# Altium schematic symbol library Cymometer.SchLib: 31 symbols
Pins are listed as number, name and electrical type; pins without a type are passive.

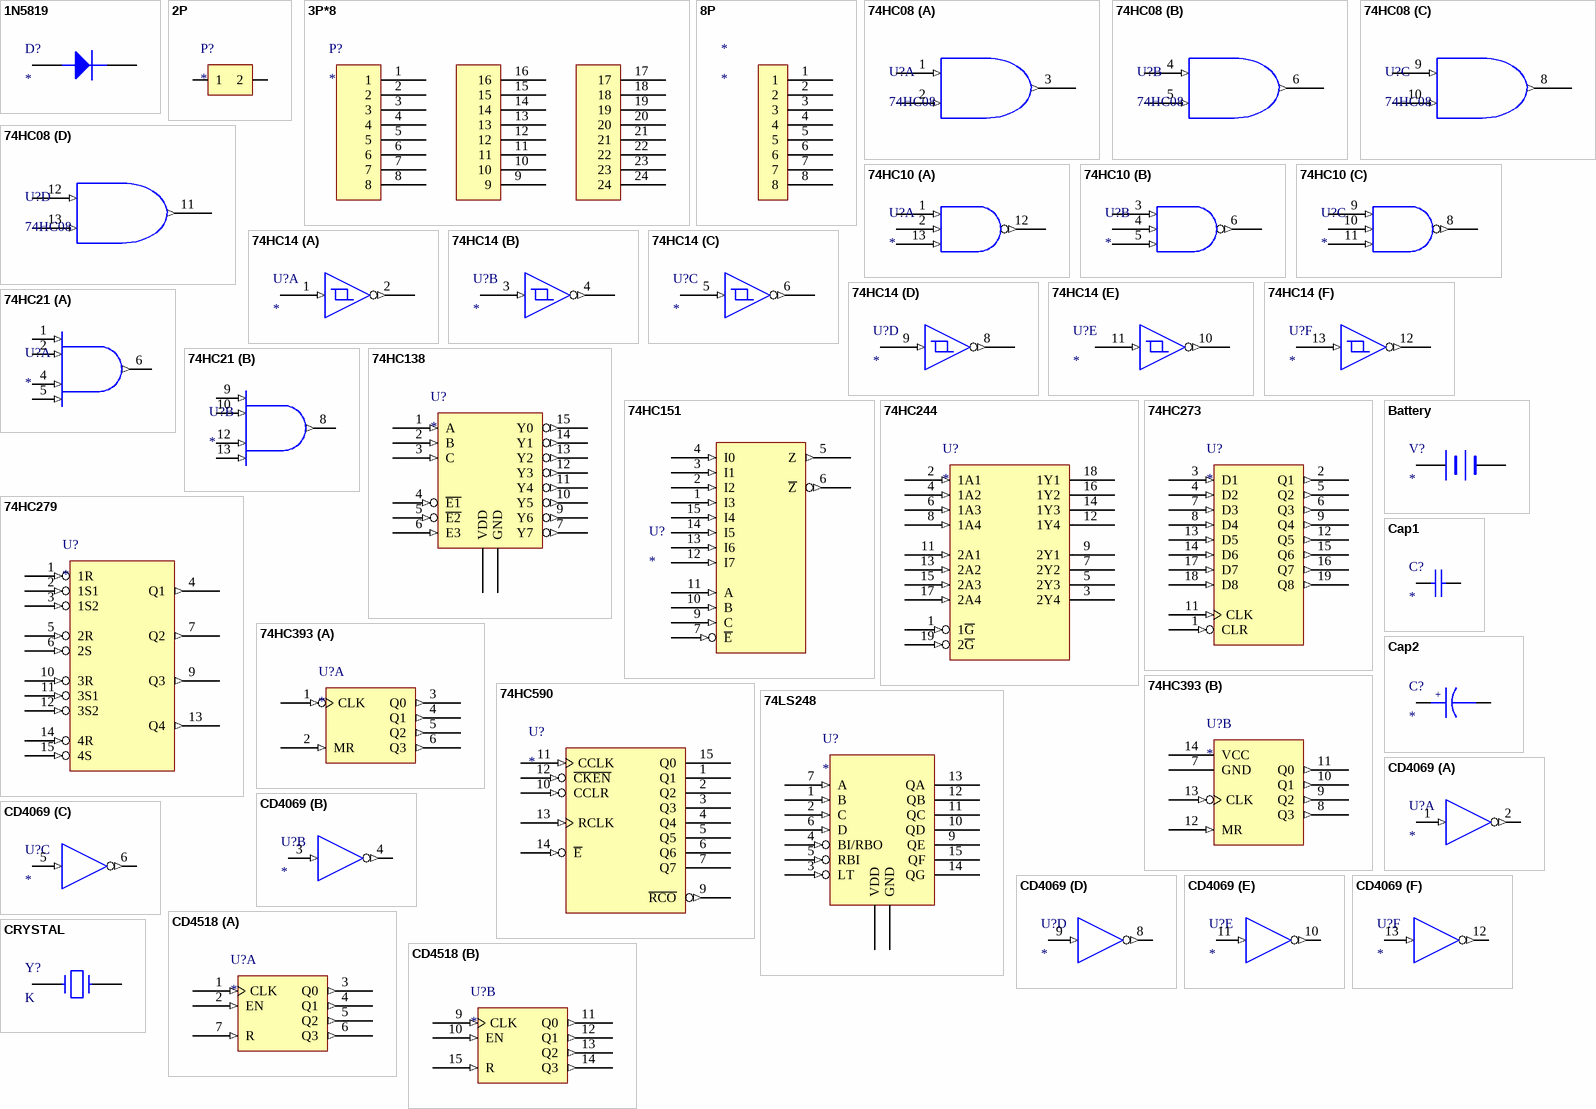
[diagram p0: symbols 1N5819 to CRYSTAL]

## 1N5819
designator D?
footprint 1N5819(SMA)
pins: A, K

## 2P
designator P?
footprint 2P
pins: 1, 2

## 3P*8
designator P?
footprint 3P*8
pins: 1, 2, 3, 4, 5, 6, 7, 8, 9, 10, 11, 12, 13, 14, 15, 16, 17, 18, 19, 20, 21, 22, 23, 24

## 8P
designator *
pins: 1, 2, 3, 4, 5, 6, 7, 8

## 74HC08
designator U?
二输入与门
footprint SOP14
part A pins: 1 (in), 2 (in), 3 (out)
part B pins: 4 (in), 5 (in), 6 (out)
part C pins: 8 (out), 9 (in), 10 (in)
part D pins: 11 (out), 12 (in), 13 (in)

## 74HC10
designator U?
footprint SOP14
part A pins: 1 (in), 2 (in), 12 (out), 13 (in)
part B pins: 3 (in), 4 (in), 5 (in), 6 (out)
part C pins: 8 (out), 9 (in), 10 (in), 11 (in)

## 74HC14
designator U?
footprint SOP14
part A pins: 1 (in), 2 (out)
part B pins: 3 (in), 4 (out)
part C pins: 5 (in), 6 (out)
part D pins: 8 (out), 9 (in)
part E pins: 10 (out), 11 (in)
part F pins: 12 (out), 13 (in)

## 74HC21
designator U?
4输入与门
footprint SOP14
part A pins: 1 A (in), 2 B (in), 4 C (in), 5 D (in), 6 Y (out)
part B pins: 8 Y (out), 9 A (in), 10 B (in), 12 C (in), 13 D (in)

## 74HC138
designator U?
38译码器
footprint SOP16
pins: 1 A (in), 2 B (in), 3 C (in), 4 ~{E1} (in), 5 ~{E2} (in), 6 E3 (in), 7 Y7 (out), 8 GND (power), 9 Y6 (out), 10 Y5 (out), 11 Y4 (out), 12 Y3 (out), 13 Y2 (out), 14 Y1 (out), 15 Y0 (out), 16 VDD (power)

## 74HC151
designator U?
footprint DIP16
pins: 1 I3 (in), 2 I2 (in), 3 I1 (in), 4 I0 (in), 5 Z (out), 6 ~{Z} (out), 7 ~{E} (in), 9 C (in), 10 B (in), 11 A (in), 12 I7 (in), 13 I6 (in), 14 I5 (in), 15 I4 (in)

## 74HC244
designator U?
三态缓冲器
footprint SOP20
pins: 1 1~{G} (in), 2 1A1 (in), 3 2Y4 (hiz), 4 1A2 (in), 5 2Y3 (hiz), 6 1A3 (in), 7 2Y2 (hiz), 8 1A4 (in), 9 2Y1 (hiz), 11 2A1 (in), 12 1Y4 (hiz), 13 2A2 (in), 14 1Y3 (hiz), 15 2A3 (in), 16 1Y2 (hiz), 17 2A4 (in), 18 1Y1 (hiz), 19 2~{G} (in)

## 74HC273
designator U?
D触发器
footprint SOP20
pins: 1 CLR (in), 2 Q1 (out), 3 D1 (in), 4 D2 (in), 5 Q2 (out), 6 Q3 (out), 7 D3 (in), 8 D4 (in), 9 Q4 (out), 11 CLK (in), 12 Q5 (out), 13 D5 (in), 14 D6 (in), 15 Q6 (out), 16 Q7 (out), 17 D7 (in), 18 D8 (in), 19 Q8 (out)

## 74HC279
designator U?
footprint DIP16
pins: 1 1R (in), 2 1S1 (in), 3 1S2 (in), 4 Q1 (out), 5 2R (in), 6 2S (in), 7 Q2 (out), 9 Q3 (out), 10 3R (in), 11 3S1 (in), 12 3S2 (in), 13 Q4 (out), 14 4R (in), 15 4S (in)

## 74HC393
designator U?
footprint SOP14
part A pins: 1 CLK (in), 2 MR (in), 3 Q0 (out), 4 Q1 (out), 5 Q2 (out), 6 Q3 (out)
part B pins: 7 GND (power), 8 Q3 (out), 9 Q2 (out), 10 Q1 (out), 11 Q0 (out), 12 MR (in), 13 CLK (in), 14 VCC (power)

## 74HC590
designator U?
footprint SOP16
pins: 1 Q1 (hiz), 2 Q2 (hiz), 3 Q3 (hiz), 4 Q4 (hiz), 5 Q5 (hiz), 6 Q6 (hiz), 7 Q7 (hiz), 9 ~{RCO} (out), 10 CCLR (in), 11 CCLK (in), 12 ~{CKEN} (in), 13 RCLK (in), 14 ~{E} (in), 15 Q0 (hiz)

## 74LS248
designator U?
数码管译码器
footprint DIP16
pins: 1 B (in), 2 C (in), 3 LT (in), 4 BI/RBO (in), 5 RBI (in), 6 D (in), 7 A (in), 8 GND (power), 9 QE, 10 QD, 11 QC, 12 QB, 13 QA, 14 QG, 15 QF, 16 VDD (power)

## Battery
designator V?
footprint Battry
pins: 1 +, 2 -

## Cap1
designator C?
footprint Cap1
pins: 1, 2

## Cap2
designator C?
footprint Cap2
pins: A 1, K 2
text: +

## CD4069
designator U?
CMOS非门
footprint DIP14
part A pins: 1 A (in), 2 Y (out)
part B pins: 3 A (in), 4 Y (out)
part C pins: 5 A (in), 6 Y (out)
part D pins: 8 Y (out), 9 A (in)
part E pins: 10 Y (out), 11 A (in)
part F pins: 12 Y (out), 13 A (in)

## CD4518
designator U?
BCD计数器
footprint DIP16
part A pins: 1 CLK (in), 2 EN (in), 3 Q0 (out), 4 Q1 (out), 5 Q2 (out), 6 Q3 (out), 7 R (in)
part B pins: 9 CLK (in), 10 EN (in), 11 Q0 (out), 12 Q1 (out), 13 Q2 (out), 14 Q3 (out), 15 R (in)

## CRYSTAL
designator Y?, comment K
晶振
footprint CRYSTAL
pins: 1, 2

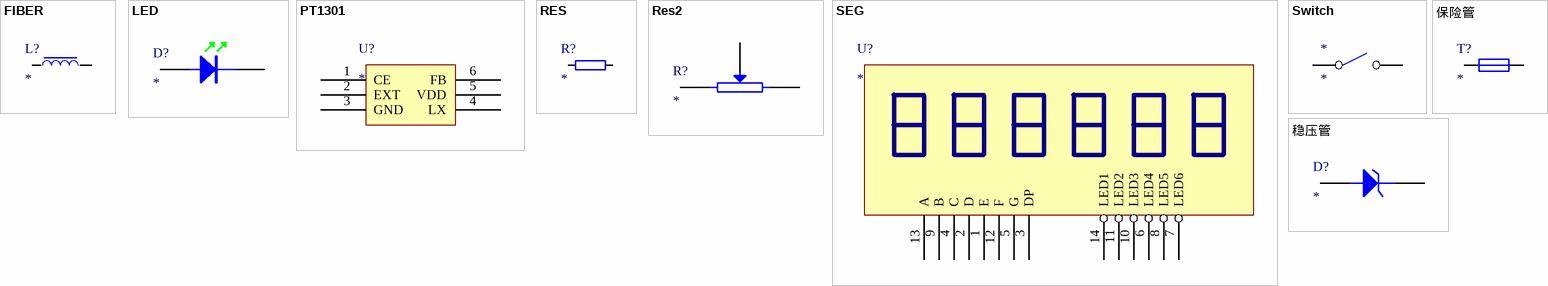
[diagram p1: symbols FIBER to 稳压管]

## FIBER
designator L?
footprint FIBER
pins: 1, 2

## LED
designator D?
footprint 0805LED
pins: A 1, K 2

## PT1301
designator U?
footprint Sop26
pins: 1 CE, 2 EXT, 3 GND, 4 LX, 5 VDD, 6 FB

## RES
designator R?
电阻
footprint 0805R
pins: 1, 2

## Res2
designator R?
footprint Res2
pins: 1, 2, 3 W

## SEG
designator U?
数码管
footprint 6BIT_SEG
pins: 1 E "LEDA", 2 D "LEDD", 3 DP "LEDDP", 4 C "LEDC", 5 G "LEDG", 6 LED4, 7 LED6, 8 LED5, 9 B "LEDB", 10 LED3 "LED2=3", 11 LED2, 12 F "LEDA", 13 A "LEDA", 14 LED1

## Switch
designator *
footprint Switch
pins: 1, 2

## 保险管
designator T?
footprint 0805T
pins: 1, 2

## 稳压管
designator D?
footprint 1206稳压管
pins: A, K